# EAGLE library part 72V0X (library Radicon)
IDT72V01/72V02/72V03/72V04/72V05/72V06 3.3V ASYNCHRONOUS FIFO
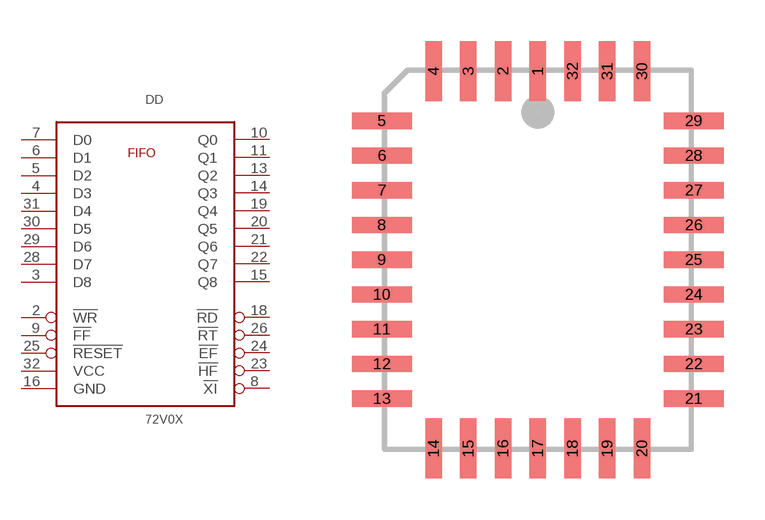
[diagram p47: symbol with the pads of PLCCR32; footprint PLCCR32]

Designator prefix DD

## 72V0X  [PLCCR32]
2  !WR
3  D8
4  D3
5  D2
6  D1
7  D0
8  !XI
9  !FF
10  Q0
11  Q1
13  Q2
14  Q3
15  Q8
16  GND
18  !RD
19  Q4
20  Q5
21  Q6
22  Q7
23  !HF
24  !EF
25  !RESET
26  !RT
28  D7
29  D6
30  D5
31  D4
32  VCC

## Footprint PLCCR32 (pad centres in mm)
PLASTIC LEADED CHIP CARRIER rectangle
smd 0.6 x 2.2: 1 0,6.9; 2 -1.27,6.9; 3 -2.54,6.9; 4 -3.81,6.9; 14 -3.81,-6.9; 15 -2.54,-6.9; 16 -1.27,-6.9; 17 0,-6.9; 18 1.27,-6.9; 19 2.54,-6.9; 20 3.81,-6.9; 30 3.81,6.9; 31 2.54,6.9; 32 1.27,6.9
smd 2.2 x 0.6: 5 -5.7,5.08; 6 -5.7,3.81; 7 -5.7,2.54; 8 -5.7,1.27; 9 -5.7,0; 10 -5.7,-1.27; 11 -5.7,-2.54; 12 -5.7,-3.81; 13 -5.7,-5.08; 21 5.7,-5.08; 22 5.7,-3.81; 23 5.7,-2.54; 24 5.7,-1.27; 25 5.7,0; 26 5.7,1.27; 27 5.7,2.54; 28 5.7,3.81; 29 5.7,5.08